# Altium integrated library Linear Technology Power Management Switching Regulator LTC1174-LTC3901.IntLib: 2647 symbols (part 79 of 364)
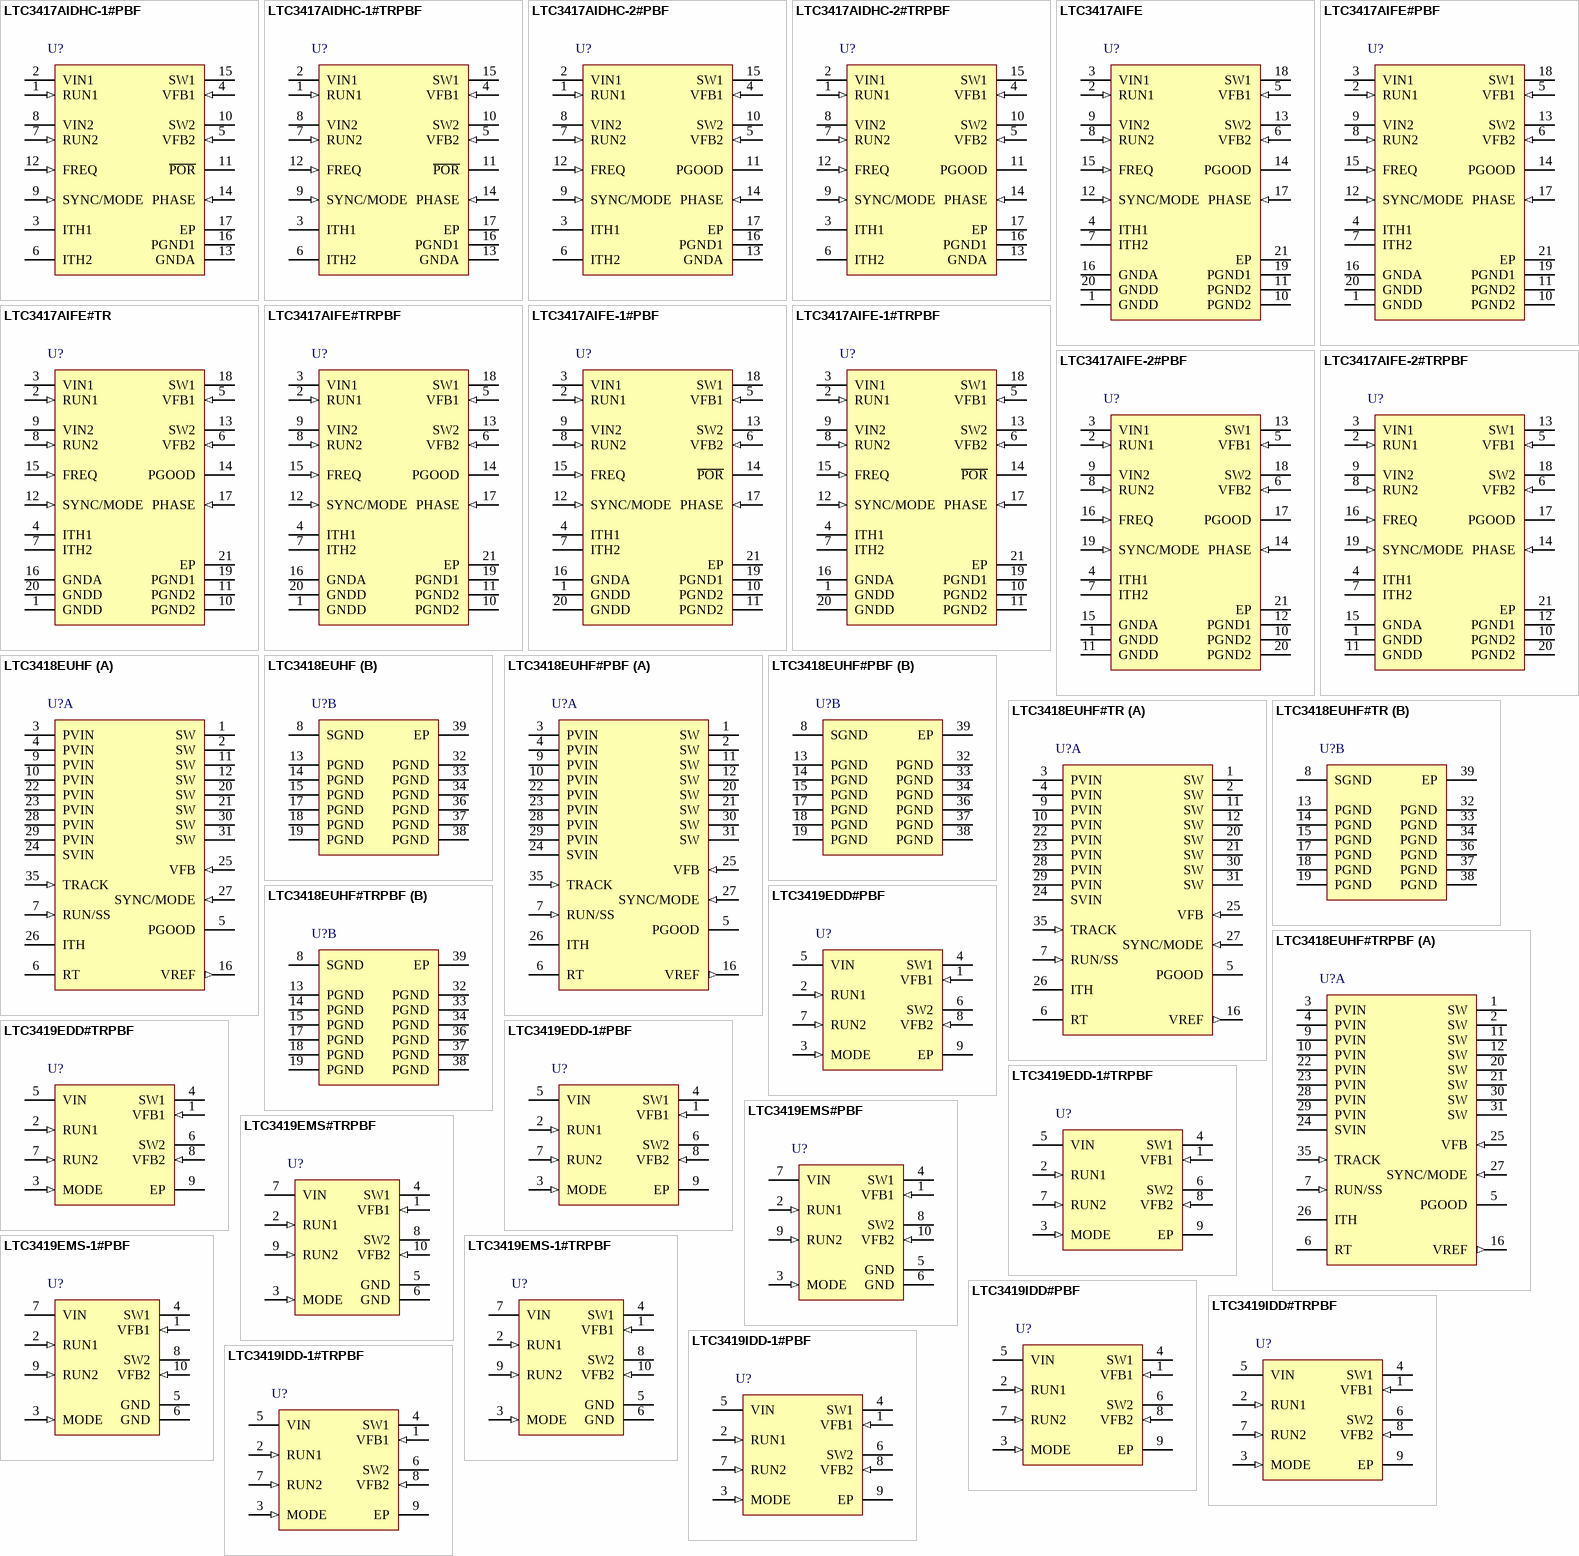
[diagram p255: symbols LTC3417AIDHC-1#PBF to LTC3419IDD-1#TRPBF]

## LTC3418EUHF#PBF
designator U?
8 A, 4 MHz, Monolithic Synchronous Step-Down Regulator, 38-pin QFN (UHF-38), -40 to 85 degC, Pb-Free; Manufacturer: Linear Technology; PartNumber: LTC3418EUHF#PBF; Frequency Sync Range: 300kHz - 4MHz; Number of Outputs: 1; DatasheetVersion: Rev. B; PackageVersion: Rev. C, 06/2010; PackageReference: UHF-38; PackageDescription: 38-Pin Plastic QFN, Body 7 x 5 mm, Pitch 0.5 mm; Supplier 1: Digi-Key; Supplier Part Number 1: LTC3418EUHF#PBF-ND; Supplier 2: Farnell; Supplier Part Number 2: 1663710; Supplier 3: Newark; Supplier Part Number 3: 56M7745; RoHS: TRUE; Mounting Technology: Surface Mount; Code_JEDEC: MO-220; ComponentLink1Description: Manufacturer URL; ComponentLink1URL: http://www.linear.com/; ComponentLink2Description: Datasheet; ComponentLink2URL: http://cds.linear.com/docs/en/datasheet/3418fb.pdf; ComponentLink3Description: Package Specification; ComponentLink3URL: http://cds.linear.com/docs/en/packaging/QFN_38_05-08-1701.pdf
footprint LT-UHF-38_N (QFN, 38-Leads, Body 7.1x5.1mm, Pitch 0.5mm, Thermal Pad 3.15x5.15mm, IPC Medium Density)
footprint LT-UHF-38_L (QFN, 38-Leads, Body 7.1x5.1mm, Pitch 0.5mm, Thermal Pad 3.15x5.15mm, IPC High Density)
footprint LT-UHF-38_M (QFN, 38-Leads, Body 7.1x5.1mm, Pitch 0.5mm, Thermal Pad 3.15x5.15mm, IPC Low Density)
part A pins: 1 SW (power) "Switch Node Connection to Inductor. This pin connects to the drains of the internal main and synchronous power MOSFET switches.", 2 SW (power) "Switch Node Connection to Inductor. This pin connects to the drains of the internal main and synchronous power MOSFET switches.", 3 PVIN (power) "Power Input Supply. Decouple these pins to PGND with capacitors on all four corners of the package.", 4 PVIN (power) "Power Input Supply. Decouple these pins to PGND with capacitors on all four corners of the package.", 5 PGOOD (oc) "Power Good Output. Open-drain logic output that is pulled to ground when the output voltage is not within +/-7.5% of regulation point.", 6 RT "Oscillator Resistor Input. Connecting a resistor to ground from this pin sets the switching frequency.", 7 RUN/SS (in) "Run Control and Soft-Start Input. Forcing this pin below 0.5V shuts down the LTC3418. In shutdown all functions are disabled drawing <1.5uA of supply current. A capacitor to ground from this pin sets the ramp time to full (See Datasheet)", 9 PVIN (power) "Power Input Supply. Decouple these pins to PGND with capacitors on all four corners of the package.", 10 PVIN (power) "Power Input Supply. Decouple these pins to PGND with capacitors on all four corners of the package.", 11 SW (power) "Switch Node Connection to Inductor. This pin connects to the drains of the internal main and synchronous power MOSFET switches.", 12 SW (power) "Switch Node Connection to Inductor. This pin connects to the drains of the internal main and synchronous power MOSFET switches.", 16 VREF (out) "Reference Output. Decouple this pin with a 2.2uF capacitor.", 20 SW (power) "Switch Node Connection to Inductor. This pin connects to the drains of the internal main and synchronous power MOSFET switches.", 21 SW (power) "Switch Node Connection to Inductor. This pin connects to the drains of the internal main and synchronous power MOSFET switches.", 22 PVIN (power) "Power Input Supply. Decouple these pins to PGND with capacitors on all four corners of the package.", 23 PVIN (power) "Power Input Supply. Decouple these pins to PGND with capacitors on all four corners of the package.", 24 SVIN (power) "Signal Input Supply. Decouple this pin to SGND with a capacitor.", 25 VFB (in) "Feedback Pin. Receives the feedback voltage from a resistive divider connected across the output.", 26 ITH "Error Amplifier Compensation Point. The current comparator threshold increases with this control voltage. Nominal voltage range for this pin is from 0.2V to 1.4V with 0.4V corresponding to the zero-sense voltage (zero (See Datasheet)", 27 SYNC/MODE (in) "Mode Select and External Clock Synchronization Input. To select Forced Continuous, tie to SVIN. Connecting this pin to a voltage between 0V and 1V selects Burst Mode operation with the burst clamp set to the pin voltage.", 28 PVIN (power) "Power Input Supply. Decouple these pins to PGND with capacitors on all four corners of the package.", 29 PVIN (power) "Power Input Supply. Decouple these pins to PGND with capacitors on all four corners of the package.", 30 SW (power) "Switch Node Connection to Inductor. This pin connects to the drains of the internal main and synchronous power MOSFET switches.", 31 SW (power) "Switch Node Connection to Inductor. This pin connects to the drains of the internal main and synchronous power MOSFET switches.", 35 TRACK (in) "Voltage Tracking Input. Feedback voltage will regulate to the voltage on this pin during start-up power sequencing."
part B pins: 8 SGND (power) "Signal Ground. All small-signal components and compensation components should connect to this ground, which in turn connects to PGND at one point.", 13 PGND (power) "Power Ground. Connect this pin closely to the (-) terminal of CIN and COUT.", 14 PGND (power) "Power Ground. Connect this pin closely to the (-) terminal of CIN and COUT.", 15 PGND (power) "Power Ground. Connect this pin closely to the (-) terminal of CIN and COUT.", 17 PGND (power) "Power Ground. Connect this pin closely to the (-) terminal of CIN and COUT.", 18 PGND (power) "Power Ground. Connect this pin closely to the (-) terminal of CIN and COUT.", 19 PGND (power) "Power Ground. Connect this pin closely to the (-) terminal of CIN and COUT.", 32 PGND (power) "Power Ground. Connect this pin closely to the (-) terminal of CIN and COUT.", 33 PGND (power) "Power Ground. Connect this pin closely to the (-) terminal of CIN and COUT.", 34 PGND (power) "Power Ground. Connect this pin closely to the (-) terminal of CIN and COUT.", 36 PGND (power) "Power Ground. Connect this pin closely to the (-) terminal of CIN and COUT.", 37 PGND (power) "Power Ground. Connect this pin closely to the (-) terminal of CIN and COUT.", 38 PGND (power) "Power Ground. Connect this pin closely to the (-) terminal of CIN and COUT.", 39 EP (power) "The Exposed Pad is PGND and must be soldered to the PCB ground for electrical connection and rated thermal performance."

## LTC3418EUHF#TR
designator U?
8 A, 4 MHz, Monolithic Synchronous Step-Down Regulator, 38-pin QFN (UHF-38), -40 to 85 degC, Tape and Reel; Manufacturer: Linear Technology; PartNumber: LTC3418EUHF#TR; Frequency Sync Range: 300kHz - 4MHz; Number of Outputs: 1; DatasheetVersion: Rev. B; PackageVersion: Rev. C, 06/2010; PackageReference: UHF-38; PackageDescription: 38-Pin Plastic QFN, Body 7 x 5 mm, Pitch 0.5 mm; Supplier 1: Newark; Supplier Part Number 1: 56M7746; Packing: Tape and Reel; RoHS: FALSE; Mounting Technology: Surface Mount; Code_JEDEC: MO-220; ComponentLink1Description: Manufacturer URL; ComponentLink1URL: http://www.linear.com/; ComponentLink2Description: Datasheet; ComponentLink2URL: http://cds.linear.com/docs/en/datasheet/3418fb.pdf; ComponentLink3Description: Package Specification; ComponentLink3URL: http://cds.linear.com/docs/en/packaging/QFN_38_05-08-1701.pdf
footprint LT-UHF-38_N (QFN, 38-Leads, Body 7.1x5.1mm, Pitch 0.5mm, Thermal Pad 3.15x5.15mm, IPC Medium Density)
footprint LT-UHF-38_L (QFN, 38-Leads, Body 7.1x5.1mm, Pitch 0.5mm, Thermal Pad 3.15x5.15mm, IPC High Density)
footprint LT-UHF-38_M (QFN, 38-Leads, Body 7.1x5.1mm, Pitch 0.5mm, Thermal Pad 3.15x5.15mm, IPC Low Density)
part A pins: 1 SW (power) "Switch Node Connection to Inductor. This pin connects to the drains of the internal main and synchronous power MOSFET switches.", 2 SW (power) "Switch Node Connection to Inductor. This pin connects to the drains of the internal main and synchronous power MOSFET switches.", 3 PVIN (power) "Power Input Supply. Decouple these pins to PGND with capacitors on all four corners of the package.", 4 PVIN (power) "Power Input Supply. Decouple these pins to PGND with capacitors on all four corners of the package.", 5 PGOOD (oc) "Power Good Output. Open-drain logic output that is pulled to ground when the output voltage is not within +/-7.5% of regulation point.", 6 RT "Oscillator Resistor Input. Connecting a resistor to ground from this pin sets the switching frequency.", 7 RUN/SS (in) "Run Control and Soft-Start Input. Forcing this pin below 0.5V shuts down the LTC3418. In shutdown all functions are disabled drawing <1.5uA of supply current. A capacitor to ground from this pin sets the ramp time to full (See Datasheet)", 9 PVIN (power) "Power Input Supply. Decouple these pins to PGND with capacitors on all four corners of the package.", 10 PVIN (power) "Power Input Supply. Decouple these pins to PGND with capacitors on all four corners of the package.", 11 SW (power) "Switch Node Connection to Inductor. This pin connects to the drains of the internal main and synchronous power MOSFET switches.", 12 SW (power) "Switch Node Connection to Inductor. This pin connects to the drains of the internal main and synchronous power MOSFET switches.", 16 VREF (out) "Reference Output. Decouple this pin with a 2.2uF capacitor.", 20 SW (power) "Switch Node Connection to Inductor. This pin connects to the drains of the internal main and synchronous power MOSFET switches.", 21 SW (power) "Switch Node Connection to Inductor. This pin connects to the drains of the internal main and synchronous power MOSFET switches.", 22 PVIN (power) "Power Input Supply. Decouple these pins to PGND with capacitors on all four corners of the package.", 23 PVIN (power) "Power Input Supply. Decouple these pins to PGND with capacitors on all four corners of the package.", 24 SVIN (power) "Signal Input Supply. Decouple this pin to SGND with a capacitor.", 25 VFB (in) "Feedback Pin. Receives the feedback voltage from a resistive divider connected across the output.", 26 ITH "Error Amplifier Compensation Point. The current comparator threshold increases with this control voltage. Nominal voltage range for this pin is from 0.2V to 1.4V with 0.4V corresponding to the zero-sense voltage (zero (See Datasheet)", 27 SYNC/MODE (in) "Mode Select and External Clock Synchronization Input. To select Forced Continuous, tie to SVIN. Connecting this pin to a voltage between 0V and 1V selects Burst Mode operation with the burst clamp set to the pin voltage.", 28 PVIN (power) "Power Input Supply. Decouple these pins to PGND with capacitors on all four corners of the package.", 29 PVIN (power) "Power Input Supply. Decouple these pins to PGND with capacitors on all four corners of the package.", 30 SW (power) "Switch Node Connection to Inductor. This pin connects to the drains of the internal main and synchronous power MOSFET switches.", 31 SW (power) "Switch Node Connection to Inductor. This pin connects to the drains of the internal main and synchronous power MOSFET switches.", 35 TRACK (in) "Voltage Tracking Input. Feedback voltage will regulate to the voltage on this pin during start-up power sequencing."
part B pins: 8 SGND (power) "Signal Ground. All small-signal components and compensation components should connect to this ground, which in turn connects to PGND at one point.", 13 PGND (power) "Power Ground. Connect this pin closely to the (-) terminal of CIN and COUT.", 14 PGND (power) "Power Ground. Connect this pin closely to the (-) terminal of CIN and COUT.", 15 PGND (power) "Power Ground. Connect this pin closely to the (-) terminal of CIN and COUT.", 17 PGND (power) "Power Ground. Connect this pin closely to the (-) terminal of CIN and COUT.", 18 PGND (power) "Power Ground. Connect this pin closely to the (-) terminal of CIN and COUT.", 19 PGND (power) "Power Ground. Connect this pin closely to the (-) terminal of CIN and COUT.", 32 PGND (power) "Power Ground. Connect this pin closely to the (-) terminal of CIN and COUT.", 33 PGND (power) "Power Ground. Connect this pin closely to the (-) terminal of CIN and COUT.", 34 PGND (power) "Power Ground. Connect this pin closely to the (-) terminal of CIN and COUT.", 36 PGND (power) "Power Ground. Connect this pin closely to the (-) terminal of CIN and COUT.", 37 PGND (power) "Power Ground. Connect this pin closely to the (-) terminal of CIN and COUT.", 38 PGND (power) "Power Ground. Connect this pin closely to the (-) terminal of CIN and COUT.", 39 EP (power) "The Exposed Pad is PGND and must be soldered to the PCB ground for electrical connection and rated thermal performance."